# EAGLE library part CAP1188 (library pimoroni-ics)
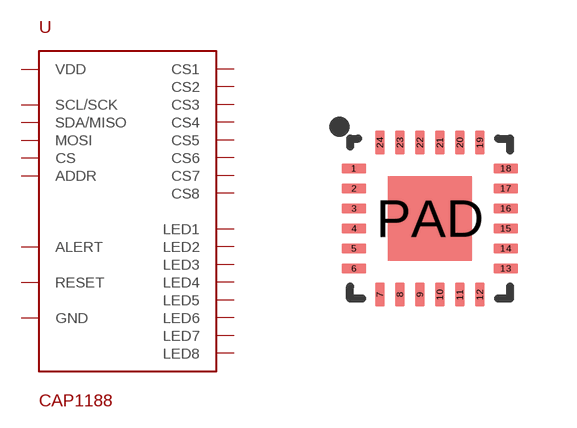
[diagram p23: symbol with the pads of QFN-24; footprint QFN-24]

Designator prefix -

## CAP1188  [QFN-24]
1  CS
2  MOSI
3  SDA/MISO
4  SCL/SCK
5  LED1
6  LED2
7  LED3
8  LED4
9  LED5
10  LED6
11  LED7
12  LED8
13  ALERT
14  ADDR
15  CS8
16  CS7
17  CS6
18  CS5
19  CS4
20  CS3
21  CS2
22  CS1
23  VDD
24  RESET
PAD  GND

## Footprint QFN-24 (pad centres in mm)
smd 0.6 x 0.24: 1 -1.9,1.25; 2 -1.9,0.75; 3 -1.9,0.25; 4 -1.9,-0.25; 5 -1.9,-0.75; 6 -1.9,-1.25; 13 1.9,-1.25; 14 1.9,-0.75; 15 1.9,-0.25; 16 1.9,0.25; 17 1.9,0.75; 18 1.9,1.25
smd 0.24 x 0.6: 7 -1.25,-1.9; 8 -0.75,-1.9; 9 -0.25,-1.9; 10 0.25,-1.9; 11 0.75,-1.9; 12 1.25,-1.9; 19 1.25,1.9; 20 0.75,1.9; 21 0.25,1.9; 22 -0.25,1.9; 23 -0.75,1.9; 24 -1.25,1.9
smd 2.1 x 2.1: PAD 0,0